# Altium schematic symbol library WiDSO.SchLib: 11 symbols
Pins are listed as number, name and electrical type; pins without a type are passive.

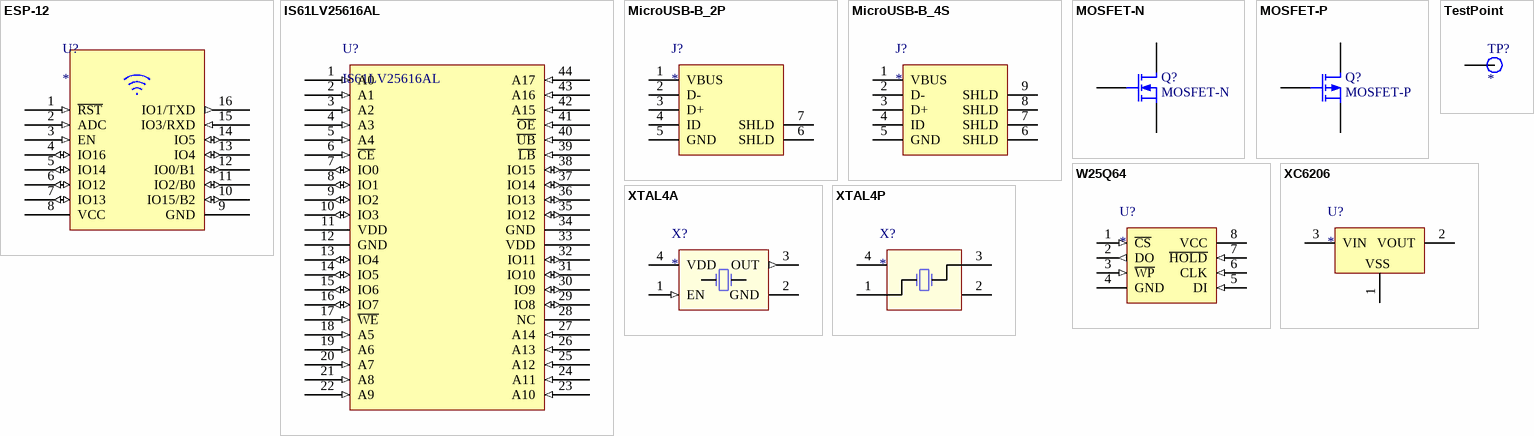
[diagram p0: symbols ESP-12 to XTAL4P]

## ESP-12
designator U?
串口Wifi模块
footprint ESP-12 (串口Wifi模块)
pins: 1 ~{RST} (in), 2 ADC (in), 3 EN (in), 4 IO16 (io), 5 IO14 (io), 6 IO12 (io), 7 IO13 (io), 8 VCC, 9 GND (power), 10 IO15/B2 (io), 11 IO2/B0 (io), 12 IO0/B1 (io), 13 IO4 (io), 14 IO5 (io), 15 IO3/RXD (in), 16 IO1/TXD (out)

## IS61LV25616AL
designator U?
256K*16 SRAM, 3.3V
footprint TSOP-2L (TSOP, 44-Leads, Body 18.40x10.16mm, Pitch 0.80mm, IPC Low Density)
pins: 1 A0 (in), 2 A1 (in), 3 A2 (in), 4 A3 (in), 5 A4 (in), 6 ~{CE} (in), 7 IO0 (io), 8 IO1 (io), 9 IO2 (io), 10 IO3 (io), 11 VDD (power), 12 GND (power), 13 IO4 (io), 14 IO5 (io), 15 IO6 (io), 16 IO7 (io), 17 ~{WE} (in), 18 A5 (in), 19 A6 (in), 20 A7 (in), 21 A8 (in), 22 A9 (in), 23 A10 (in), 24 A11 (in), 25 A12 (in), 26 A13 (in), 27 A14 (in), 28 NC, 29 IO8 (io), 30 IO9 (io), 31 IO10 (io), 32 IO11 (io), 33 VDD (power), 34 GND (power), 35 IO12 (io), 36 IO13 (io), 37 IO14 (io), 38 IO15 (io), 39 ~{LB} (in), 40 ~{UB} (in), 41 ~{OE} (in), 42 A15 (in), 43 A16 (in), 44 A17 (in)

## MicroUSB-B_2P
designator J?
MicroUSB母座
footprint MICRO-USB-B-2P (直插2脚固定MicroUSB贴片母座)
pins: 1 VBUS (power), 2 D-, 3 D+, 4 ID, 5 GND (power), 6 SHLD, 7 SHLD

## MicroUSB-B_4S
designator J?
MicroUSB母座
footprint MICRO-USB-B-4S (MicroUSB贴片母座)
pins: 1 VBUS (power), 2 D-, 3 D+, 4 ID, 5 GND (power), 6 SHLD, 7 SHLD, 8 SHLD, 9 SHLD

## MOSFET-N
designator Q?
N-Channel MOSFET; Published: 8-Jun-2000; LatestRevisionDate: 17-Jul-2002; LatestRevisionNote: Re-released for DXP Platform.; PackageVersion: 1995/1996; PackageReference: E3; Publisher: Altium Limited; PackageDescription: TO, Flat Index; 3 In-Line, Axial Leads; Body Dia. 4.6mm; Lead Dia. 0.5 mm (max)
footprint SOT-23
simulation model NMOS (MOSFET-N)
pins: 1 G, 2 S, 3 D

## MOSFET-P
designator Q?
P-Channel MOSFET; Published: 8-Jun-2000; LatestRevisionDate: 17-Jul-2002; LatestRevisionNote: Re-released for DXP Platform.; PackageVersion: 1995/1996; PackageReference: E3; Publisher: Altium Limited; PackageDescription: TO, Flat Index; 3 In-Line, Axial Leads; Body Dia. 4.6mm; Lead Dia. 0.5 mm (max)
footprint SOT-23
simulation model PMOS (MOSFET-P)
pins: 1 G, 2 S, 3 D

## TestPoint
designator TP?
测试点
footprint TPOINT-30 (测试点30*30mil)
footprint TPOINT-50 (测试点50*50mil)
pins: 1

## W25Q64
designator U?
SPI Nor Flash
footprint SO8W (SOP8宽体208mil)
pins: 1 ~{CS} (in), 2 DO (out), 3 ~{WP} (in), 4 GND (power), 5 DI (in), 6 CLK (in), 7 ~{HOLD} (in), 8 VCC (power)

## XC6206
designator U?
LDO
footprint SOT-23
pins: 1 GND (power), 2 VOUT (power), 3 VIN (power)
text: VSS

## XTAL4A
designator X?
4脚有源晶振
footprint XTAL_7050_4P (4脚7mm*5mm贴片晶振)
pins: 1 EN (in), 2 GND (power), 3 OUT (out), 4 VDD (power)

## XTAL4P
designator X?
4脚无源晶振
footprint XTAL_5032_4P (4脚5mm*3.2mm贴片晶振)
pins: 1 OSC1, 2 OSC2, 3, 4